# EAGLE library part PCBPOTLARGE (library jasons_stuff)
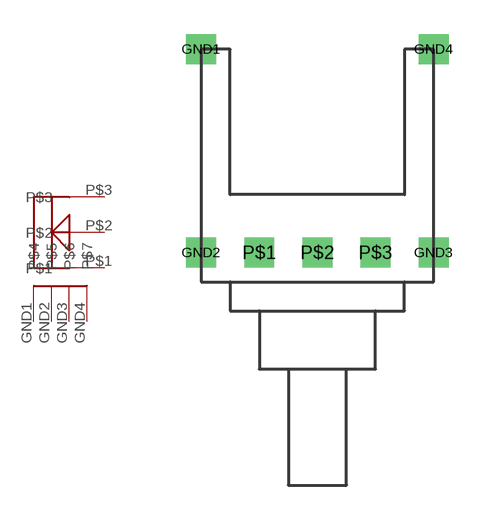
[diagram p28: symbol with the pads of PCBMOUNTPOT90DEG; footprint PCBMOUNTPOT90DEG]

Designator prefix -

## PCBPOTLARGE  [PCBMOUNTPOT90DEG]
GND1  P$4
GND2  P$5
GND3  P$6
GND4  P$7
P$1  P$1
P$2  P$2
P$3  P$3

## Footprint PCBMOUNTPOT90DEG (pad centres in mm)
drill 0.8 square: GND1 -5.08,6.35; GND2 -5.08,-2.54; GND3 5.08,-2.54; GND4 5.08,6.35; P$1 -2.54,-2.54; P$2 0,-2.54; P$3 2.54,-2.54